# EAGLE library part RP2040 (library MF_IC_Digital)
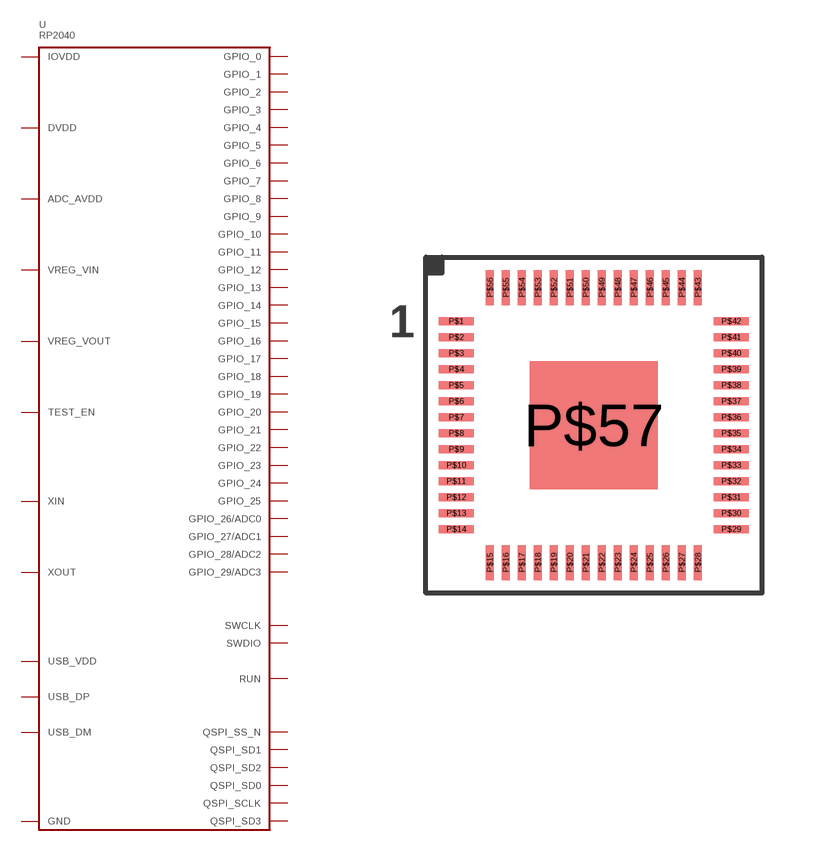
[diagram p17: symbol with the pads of RP2040_QFN-56; footprint RP2040_QFN-56]

Designator prefix U

## RP2040 (MPN: RP2040; POPULATE: 1)  [RP2040_QFN-56]
P$1  IOVDD
P$2  GPIO_0
P$3  GPIO_1
P$4  GPIO_2
P$5  GPIO_3
P$6  GPIO_4
P$7  GPIO_5
P$8  GPIO_6
P$9  GPIO_7
P$10  IOVDD
P$11  GPIO_8
P$12  GPIO_9
P$13  GPIO_10
P$14  GPIO_11
P$15  GPIO_12
P$16  GPIO_13
P$17  GPIO_14
P$18  GPIO_15
P$19  TEST_EN
P$20  XIN
P$21  XOUT
P$22  IOVDD
P$23  DVDD
P$24  SWCLK
P$25  SWDIO
P$26  RUN
P$27  GPIO_16
P$28  GPIO_17
P$29  GPIO_18
P$30  GPIO_19
P$31  GPIO_20
P$32  GPIO_21
P$33  IOVDD
P$34  GPIO_22
P$35  GPIO_23
P$36  GPIO_24
P$37  GPIO_25
P$38  GPIO_26/ADC0
P$39  GPIO_27/ADC1
P$40  GPIO_28/ADC2
P$41  GPIO_29/ADC3
P$42  IOVDD
P$43  ADC_AVDD
P$44  VREG_VIN
P$45  VREG_VOUT
P$46  USB_DM
P$47  USB_DP
P$48  USB_VDD
P$49  IOVDD
P$50  DVDD
P$51  QSPI_SD3
P$52  QSPI_SCLK
P$53  QSPI_SD0
P$54  QSPI_SD2
P$55  QSPI_SD1
P$56  QSPI_SS_N
P$57  GND

## Footprint RP2040_QFN-56 (pad centres in mm)
smd 0.875 x 0.2: P$1 -3.438,2.6; P$2 -3.438,2.2; P$3 -3.438,1.8; P$4 -3.438,1.4; P$5 -3.438,1; P$6 -3.438,0.6; P$7 -3.438,0.2; P$8 -3.438,-0.2; P$9 -3.438,-0.6; P$10 -3.438,-1; P$11 -3.438,-1.4; P$12 -3.438,-1.8; P$13 -3.438,-2.2; P$14 -3.438,-2.6; P$29 3.438,-2.6; P$30 3.438,-2.2; P$31 3.438,-1.8; P$32 3.438,-1.4; P$33 3.438,-1; P$34 3.438,-0.6; P$35 3.438,-0.2; P$36 3.438,0.2; P$37 3.438,0.6; P$38 3.438,1; P$39 3.438,1.4; P$40 3.438,1.8; P$41 3.438,2.2; P$42 3.438,2.6
smd 0.2 x 0.875: P$15 -2.6,-3.438; P$16 -2.2,-3.438; P$17 -1.8,-3.438; P$18 -1.4,-3.438; P$19 -1,-3.438; P$20 -0.6,-3.438; P$21 -0.2,-3.438; P$22 0.2,-3.438; P$23 0.6,-3.438; P$24 1,-3.438; P$25 1.4,-3.438; P$26 1.8,-3.438; P$27 2.2,-3.438; P$28 2.6,-3.438; P$43 2.6,3.438; P$44 2.2,3.438; P$45 1.8,3.438; P$46 1.4,3.438; P$47 1,3.438; P$48 0.6,3.438; P$49 0.2,3.438; P$50 -0.2,3.438; P$51 -0.6,3.438; P$52 -1,3.438; P$53 -1.4,3.438; P$54 -1.8,3.438; P$55 -2.2,3.438; P$56 -2.6,3.438
smd 3.2 x 3.2: P$57 0,0